# EAGLE library part 74HC4050 (library 74_Logic_Series)
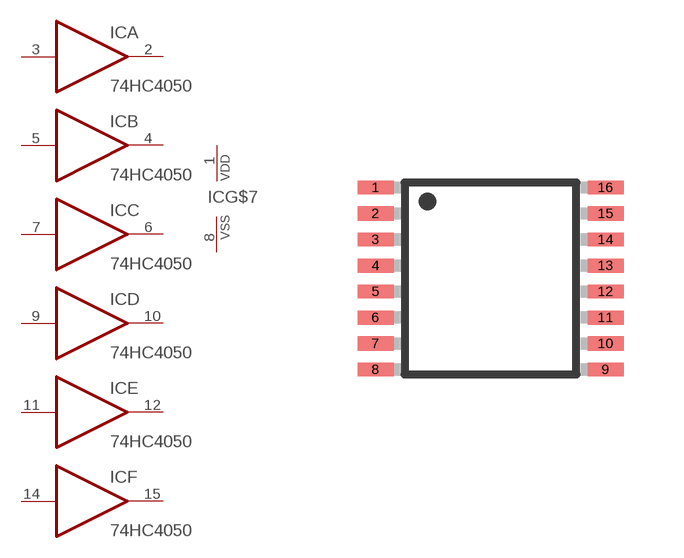
[diagram p0: symbol with the pads of TSSOP16; footprint TSSOP16]

Designator prefix IC; gates A=BUFFER B=BUFFER C=BUFFER D=BUFFER E=BUFFER F=BUFFER G$7=PWRN

## 74HC4050  [TSSOP16]
1  G$7:VDD  pwr
2  A:O  out
3  A:I
4  B:O  out
5  B:I
6  C:O  out
7  C:I
8  G$7:VSS  pwr
9  D:I
10  D:O  out
11  E:I
12  E:O  out
14  F:I
15  F:O  out

## Footprint TSSOP16 (pad centres in mm)
16-Lead Thin Shrink Small Outline Package [TSSOP] (RU-16) Source: 8x ADG1408_1409.pdf
smd 0.9 x 0.35: 1 -2.875,2.275; 2 -2.875,1.625; 3 -2.875,0.975; 4 -2.875,0.325; 5 -2.875,-0.325; 6 -2.875,-0.975; 7 -2.875,-1.625; 8 -2.875,-2.275; 9 2.875,-2.275; 10 2.875,-1.625; 11 2.875,-0.975; 12 2.875,-0.325; 13 2.875,0.325; 14 2.875,0.975; 15 2.875,1.625; 16 2.875,2.275